# EAGLE library part A6EX-310X (library omron_dip_switch)
OMRON Slide/Piano DIP Switch DIP Switch with a variety of assortment of Poles and Actuators in Slide or Piano Types. Source: http://www.tme.eu/en/Document/c2660313fae264cf6ac8383102742e6d/A6E_A6ER.PDF
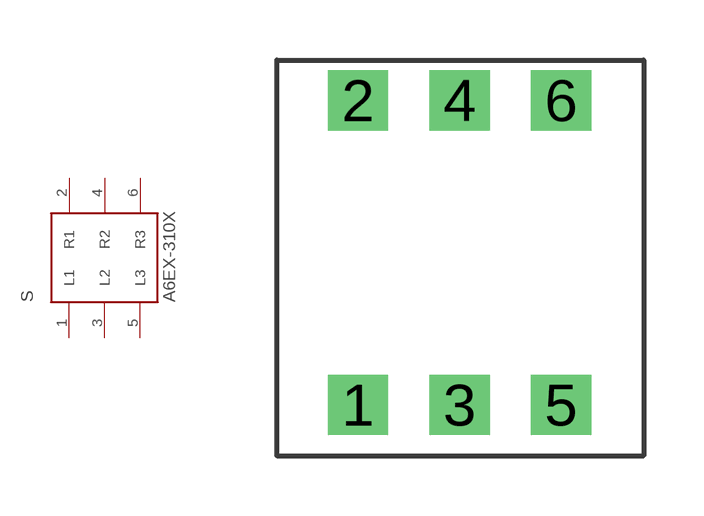
[diagram p0: symbol with the pads of A6EX-310X; footprint A6EX-310X]

Designator prefix S

## A6EX-310X  [A6EX-310X]
1  L1
2  R1
3  L2
4  R2
5  L3
6  R3

## Footprint A6EX-310X (pad centres in mm)
OMRON Slide/Piano DIP Switch DIP Switch with a variety of assortment of Poles and Actuators in Slide or Piano Types. Source: http://www.tme.eu/en/Document/c2660313fae264cf6ac8383102742e6d/A6E_A6ER.PDF
drill 1 square: 1 0,0; 2 0,7.62; 3 2.54,0; 4 2.54,7.62; 5 5.08,0; 6 5.08,7.62